# Altium schematic symbol library Crys_CTS_ATS080B_eec.SchLib: 1 symbol
Pins are listed as number, name and electrical type; pins without a type are passive.

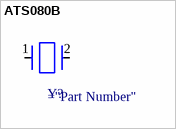
[diagram p0: symbol ATS080B]

## ATS080B
designator Y?  (value not drawn)
pins: 1, 2